# Altium schematic symbol library WE-KI.SchLib: 314 symbols (part 2 of 6)
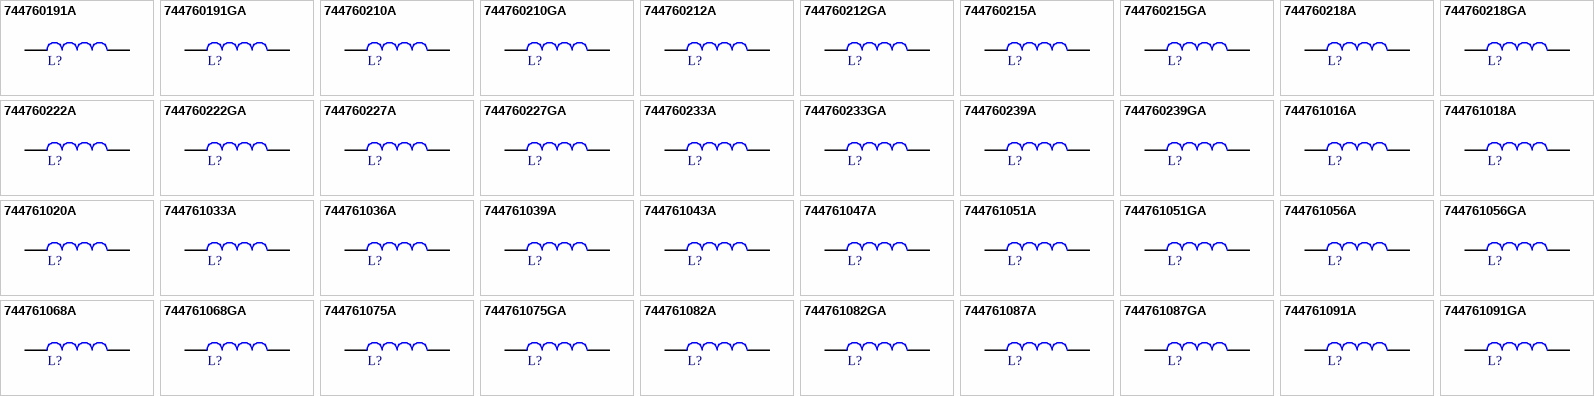
[diagram p8: symbols 744760191A to 744761091GA]

## 744760239A
designator L?, comment 390nH  (value not drawn)
WE-KI SMT Wire Wound Ceramic Inductor, size 0805, 390nH, 0.21A, 2.2Ω; Manufacturer Part Number: 744760239A; Manufacturer: Wurth Elektronik; Case/Size Code: 0805; Inductance Tolerance: +/-5%; Q Factor: 45; Self Resonant Frequency: 780MHz; Category: RF Inductors; Match Code: WE-KI; ComponentLink1Description: Website Link; ComponentLink1URL: https://www.we-online.com/redexpert/article/744760239A?ad; ComponentLink2Description: Datasheet Link; ComponentLink2URL: https://www.we-online.com/redexpert/spec/744760239A?ad; Mount: Surface Mount; Operating Temperature Max: 125°C; Operating Temperature Min: -40°C; Packaging: Tape and Reel; Length: 2mm; Width: 1.25mm; Height: 1.2mm; DC Resistance Max: 2.2Ω; Inductance: 390nH; Rated Current: 0.21A
footprint WE-KI_0805
simulation model 0805_744760239A_390n
pins: 1, 2

## 744760239GA
designator L?, comment 390nH  (value not drawn)
WE-KI SMT Wire Wound Ceramic Inductor, size 0805, 390nH, 0.21A, 2.2Ω; Manufacturer Part Number: 744760239GA; Manufacturer: Wurth Elektronik; Case/Size Code: 0805; Inductance Tolerance: +/-2%; Q Factor: 45; Self Resonant Frequency: 780MHz; Category: RF Inductors; Match Code: WE-KI; ComponentLink1Description: Website Link; ComponentLink1URL: https://www.we-online.com/redexpert/article/744760239GA?ad; ComponentLink2Description: Datasheet Link; ComponentLink2URL: https://www.we-online.com/redexpert/spec/744760239GA?ad; Mount: Surface Mount; Operating Temperature Max: 125°C; Operating Temperature Min: -40°C; Packaging: Tape and Reel; Length: 2mm; Width: 1.25mm; Height: 1.2mm; DC Resistance Max: 2.2Ω; Inductance: 390nH; Rated Current: 0.21A
footprint WE-KI_0805
simulation model 0805_744760239GA_390n
pins: 1, 2

## 744761016A
designator L?, comment 1.6nH  (value not drawn)
WE-KI SMT Wire Wound Ceramic Inductor, size 0603, 1.6nH, 0.7A, 0.03Ω; Manufacturer Part Number: 744761016A; Manufacturer: Wurth Elektronik; Case/Size Code: 0603; Inductance Tolerance: +/-0.2nH; Q Factor: 24; Self Resonant Frequency: 12500MHz; Category: RF Inductors; Match Code: WE-KI; ComponentLink1Description: Website Link; ComponentLink1URL: https://www.we-online.com/redexpert/article/744761016A?ad; ComponentLink2Description: Datasheet Link; ComponentLink2URL: https://www.we-online.com/redexpert/spec/744761016A?ad; Mount: Surface Mount; Operating Temperature Max: 125°C; Operating Temperature Min: -40°C; Packaging: Tape and Reel; Length: 1.6mm; Width: 1.05mm; Height: 1.05mm; DC Resistance Max: 0.03Ω; Inductance: 1.6nH; Rated Current: 0.7A
footprint WE-KI_0603
simulation model 0603_744761016A_1.6n
pins: 1, 2

## 744761018A
designator L?, comment 1.8nH  (value not drawn)
WE-KI SMT Wire Wound Ceramic Inductor, size 0603, 1.8nH, 0.7A, 0.05Ω; Manufacturer Part Number: 744761018A; Manufacturer: Wurth Elektronik; Case/Size Code: 0603; Inductance Tolerance: +/-0.2nH; Q Factor: 16; Self Resonant Frequency: 12500MHz; Category: RF Inductors; Match Code: WE-KI; ComponentLink1Description: Website Link; ComponentLink1URL: https://www.we-online.com/redexpert/article/744761018A?ad; ComponentLink2Description: Datasheet Link; ComponentLink2URL: https://www.we-online.com/redexpert/spec/744761018A?ad; Mount: Surface Mount; Operating Temperature Max: 125°C; Operating Temperature Min: -40°C; Packaging: Tape and Reel; Length: 1.6mm; Width: 1.05mm; Height: 1.05mm; DC Resistance Max: 0.05Ω; Inductance: 1.8nH; Rated Current: 0.7A
footprint WE-KI_0603
simulation model 0603_744761018A_1.8n
pins: 1, 2

## 744761020A
designator L?, comment 2nH  (value not drawn)
WE-KI SMT Wire Wound Ceramic Inductor, size 0603, 2nH, 0.7A, 0.08Ω; Manufacturer Part Number: 744761020A; Manufacturer: Wurth Elektronik; Case/Size Code: 0603; Inductance Tolerance: +/-0.2nH; Q Factor: 16; Self Resonant Frequency: 6900MHz; Category: RF Inductors; Match Code: WE-KI; ComponentLink1Description: Website Link; ComponentLink1URL: https://www.we-online.com/redexpert/article/744761020A?ad; ComponentLink2Description: Datasheet Link; ComponentLink2URL: https://www.we-online.com/redexpert/spec/744761020A?ad; Mount: Surface Mount; Operating Temperature Max: 125°C; Operating Temperature Min: -40°C; Packaging: Tape and Reel; Length: 1.6mm; Width: 1.05mm; Height: 1.05mm; DC Resistance Max: 0.08Ω; Inductance: 2nH; Rated Current: 0.7A
footprint WE-KI_0603
simulation model 0603_744761020A_2n
pins: 1, 2

## 744761033A
designator L?, comment 3.3nH  (value not drawn)
WE-KI SMT Wire Wound Ceramic Inductor, size 0603, 3.3nH, 0.7A, 0.06Ω; Manufacturer Part Number: 744761033A; Manufacturer: Wurth Elektronik; Case/Size Code: 0603; Inductance Tolerance: +/-0.2nH; Q Factor: 22; Self Resonant Frequency: 5800MHz; Category: RF Inductors; Match Code: WE-KI; ComponentLink1Description: Website Link; ComponentLink1URL: https://www.we-online.com/redexpert/article/744761033A?ad; ComponentLink2Description: Datasheet Link; ComponentLink2URL: https://www.we-online.com/redexpert/spec/744761033A?ad; Mount: Surface Mount; Operating Temperature Max: 125°C; Operating Temperature Min: -40°C; Packaging: Tape and Reel; Length: 1.6mm; Width: 1.05mm; Height: 1.05mm; DC Resistance Max: 0.06Ω; Inductance: 3.3nH; Rated Current: 0.7A
footprint WE-KI_0603
simulation model 0603_744761033A_3.3n
pins: 1, 2

## 744761036A
designator L?, comment 3.6nH  (value not drawn)
WE-KI SMT Wire Wound Ceramic Inductor, size 0603, 3.6nH, 0.7A, 0.06Ω; Manufacturer Part Number: 744761036A; Manufacturer: Wurth Elektronik; Case/Size Code: 0603; Inductance Tolerance: +/-0.2nH; Q Factor: 22; Self Resonant Frequency: 5900MHz; Category: RF Inductors; Match Code: WE-KI; ComponentLink1Description: Website Link; ComponentLink1URL: https://www.we-online.com/redexpert/article/744761036A?ad; ComponentLink2Description: Datasheet Link; ComponentLink2URL: https://www.we-online.com/redexpert/spec/744761036A?ad; Mount: Surface Mount; Operating Temperature Max: 125°C; Operating Temperature Min: -40°C; Packaging: Tape and Reel; Length: 1.6mm; Width: 1.05mm; Height: 1.05mm; DC Resistance Max: 0.06Ω; Inductance: 3.6nH; Rated Current: 0.7A
footprint WE-KI_0603
simulation model 0603_744761036A_3.6n
pins: 1, 2

## 744761039A
designator L?, comment 3.9nH  (value not drawn)
WE-KI SMT Wire Wound Ceramic Inductor, size 0603, 3.9nH, 0.7A, 0.08Ω; Manufacturer Part Number: 744761039A; Manufacturer: Wurth Elektronik; Case/Size Code: 0603; Inductance Tolerance: +/-0.2nH; Q Factor: 22; Self Resonant Frequency: 6000MHz; Category: RF Inductors; Match Code: WE-KI; ComponentLink1Description: Website Link; ComponentLink1URL: https://www.we-online.com/redexpert/article/744761039A?ad; ComponentLink2Description: Datasheet Link; ComponentLink2URL: https://www.we-online.com/redexpert/spec/744761039A?ad; Mount: Surface Mount; Operating Temperature Max: 125°C; Operating Temperature Min: -40°C; Packaging: Tape and Reel; Length: 1.6mm; Width: 1.05mm; Height: 1.05mm; DC Resistance Max: 0.08Ω; Inductance: 3.9nH; Rated Current: 0.7A
footprint WE-KI_0603
simulation model 0603_744761039A_3.9n
pins: 1, 2

## 744761043A
designator L?, comment 4.3nH  (value not drawn)
WE-KI SMT Wire Wound Ceramic Inductor, size 0603, 4.3nH, 0.7A, 0.08Ω; Manufacturer Part Number: 744761043A; Manufacturer: Wurth Elektronik; Case/Size Code: 0603; Inductance Tolerance: +/-0.2nH; Q Factor: 22; Self Resonant Frequency: 5900MHz; Category: RF Inductors; Match Code: WE-KI; ComponentLink1Description: Website Link; ComponentLink1URL: https://www.we-online.com/redexpert/article/744761043A?ad; ComponentLink2Description: Datasheet Link; ComponentLink2URL: https://www.we-online.com/redexpert/spec/744761043A?ad; Mount: Surface Mount; Operating Temperature Max: 125°C; Operating Temperature Min: -40°C; Packaging: Tape and Reel; Length: 1.6mm; Width: 1.05mm; Height: 1.05mm; DC Resistance Max: 0.08Ω; Inductance: 4.3nH; Rated Current: 0.7A
footprint WE-KI_0603
simulation model 0603_744761043A_4.3n
pins: 1, 2

## 744761047A
designator L?, comment 4.7nH  (value not drawn)
WE-KI SMT Wire Wound Ceramic Inductor, size 0603, 4.7nH, 0.7A, 0.13Ω; Manufacturer Part Number: 744761047A; Manufacturer: Wurth Elektronik; Case/Size Code: 0603; Inductance Tolerance: +/-0.2nH; Q Factor: 20; Self Resonant Frequency: 5800MHz; Category: RF Inductors; Match Code: WE-KI; ComponentLink1Description: Website Link; ComponentLink1URL: https://www.we-online.com/redexpert/article/744761047A?ad; ComponentLink2Description: Datasheet Link; ComponentLink2URL: https://www.we-online.com/redexpert/spec/744761047A?ad; Mount: Surface Mount; Operating Temperature Max: 125°C; Operating Temperature Min: -40°C; Packaging: Tape and Reel; Length: 1.6mm; Width: 1.05mm; Height: 1.05mm; DC Resistance Max: 0.13Ω; Inductance: 4.7nH; Rated Current: 0.7A
footprint WE-KI_0603
simulation model 0603_744761047A_4.7n
pins: 1, 2

## 744761051A
designator L?, comment 5.1nH  (value not drawn)
WE-KI SMT Wire Wound Ceramic Inductor, size 0603, 5.1nH, 0.7A, 0.14Ω; Manufacturer Part Number: 744761051A; Manufacturer: Wurth Elektronik; Case/Size Code: 0603; Inductance Tolerance: +/-5%; Q Factor: 20; Self Resonant Frequency: 5700MHz; Category: RF Inductors; Match Code: WE-KI; ComponentLink1Description: Website Link; ComponentLink1URL: https://www.we-online.com/redexpert/article/744761051A?ad; ComponentLink2Description: Datasheet Link; ComponentLink2URL: https://www.we-online.com/redexpert/spec/744761051A?ad; Mount: Surface Mount; Operating Temperature Max: 125°C; Operating Temperature Min: -40°C; Packaging: Tape and Reel; Length: 1.6mm; Width: 1.05mm; Height: 1.05mm; DC Resistance Max: 0.14Ω; Inductance: 5.1nH; Rated Current: 0.7A
footprint WE-KI_0603
simulation model 0603_744761051A_5.1n
pins: 1, 2

## 744761051GA
designator L?, comment 5.1nH  (value not drawn)
WE-KI SMT Wire Wound Ceramic Inductor, size 0603, 5.1nH, 0.7A, 0.14Ω; Manufacturer Part Number: 744761051GA; Manufacturer: Wurth Elektronik; Case/Size Code: 0603; Inductance Tolerance: +/-2%; Q Factor: 20; Self Resonant Frequency: 5700MHz; Category: RF Inductors; Match Code: WE-KI; ComponentLink1Description: Website Link; ComponentLink1URL: https://www.we-online.com/redexpert/article/744761051GA?ad; ComponentLink2Description: Datasheet Link; ComponentLink2URL: https://www.we-online.com/redexpert/spec/744761051GA?ad; Mount: Surface Mount; Operating Temperature Max: 125°C; Operating Temperature Min: -40°C; Packaging: Tape and Reel; Length: 1.6mm; Width: 1.05mm; Height: 1.05mm; DC Resistance Max: 0.14Ω; Inductance: 5.1nH; Rated Current: 0.7A
footprint WE-KI_0603
simulation model 0603_744761051GA_5.1n
pins: 1, 2

## 744761056A
designator L?, comment 5.6nH  (value not drawn)
WE-KI SMT Wire Wound Ceramic Inductor, size 0603, 5.6nH, 0.7A, 0.15Ω; Manufacturer Part Number: 744761056A; Manufacturer: Wurth Elektronik; Case/Size Code: 0603; Inductance Tolerance: +/-5%; Q Factor: 16; Self Resonant Frequency: 5500MHz; Category: RF Inductors; Match Code: WE-KI; ComponentLink1Description: Website Link; ComponentLink1URL: https://www.we-online.com/redexpert/article/744761056A?ad; ComponentLink2Description: Datasheet Link; ComponentLink2URL: https://www.we-online.com/redexpert/spec/744761056A?ad; Mount: Surface Mount; Operating Temperature Max: 125°C; Operating Temperature Min: -40°C; Packaging: Tape and Reel; Length: 1.6mm; Width: 1.05mm; Height: 1.05mm; DC Resistance Max: 0.15Ω; Inductance: 5.6nH; Rated Current: 0.7A
footprint WE-KI_0603
simulation model 0603_744761056A_5.6n
pins: 1, 2

## 744761056GA
designator L?, comment 5.6nH  (value not drawn)
WE-KI SMT Wire Wound Ceramic Inductor, size 0603, 5.6nH, 0.7A, 0.15Ω; Manufacturer Part Number: 744761056GA; Manufacturer: Wurth Elektronik; Case/Size Code: 0603; Inductance Tolerance: +/-2%; Q Factor: 16; Self Resonant Frequency: 5500MHz; Category: RF Inductors; Match Code: WE-KI; ComponentLink1Description: Website Link; ComponentLink1URL: https://www.we-online.com/redexpert/article/744761056GA?ad; ComponentLink2Description: Datasheet Link; ComponentLink2URL: https://www.we-online.com/redexpert/spec/744761056GA?ad; Mount: Surface Mount; Operating Temperature Max: 125°C; Operating Temperature Min: -40°C; Packaging: Tape and Reel; Length: 1.6mm; Width: 1.05mm; Height: 1.05mm; DC Resistance Max: 0.15Ω; Inductance: 5.6nH; Rated Current: 0.7A
footprint WE-KI_0603
simulation model 0603_744761056GA_5.6n
pins: 1, 2

## 744761068A
designator L?, comment 6.8nH  (value not drawn)
WE-KI SMT Wire Wound Ceramic Inductor, size 0603, 6.8nH, 0.7A, 0.11Ω; Manufacturer Part Number: 744761068A; Manufacturer: Wurth Elektronik; Case/Size Code: 0603; Inductance Tolerance: +/-5%; Q Factor: 30; Self Resonant Frequency: 5800MHz; Category: RF Inductors; Match Code: WE-KI; ComponentLink1Description: Website Link; ComponentLink1URL: https://www.we-online.com/redexpert/article/744761068A?ad; ComponentLink2Description: Datasheet Link; ComponentLink2URL: https://www.we-online.com/redexpert/spec/744761068A?ad; Mount: Surface Mount; Operating Temperature Max: 125°C; Operating Temperature Min: -40°C; Packaging: Tape and Reel; Length: 1.6mm; Width: 1.05mm; Height: 1.05mm; DC Resistance Max: 0.11Ω; Inductance: 6.8nH; Rated Current: 0.7A
footprint WE-KI_0603
simulation model 0603_744761068A_6.8n
pins: 1, 2

## 744761068GA
designator L?, comment 6.8nH  (value not drawn)
WE-KI SMT Wire Wound Ceramic Inductor, size 0603, 6.8nH, 0.7A, 0.11Ω; Manufacturer Part Number: 744761068GA; Manufacturer: Wurth Elektronik; Case/Size Code: 0603; Inductance Tolerance: +/-2%; Q Factor: 30; Self Resonant Frequency: 5800MHz; Category: RF Inductors; Match Code: WE-KI; ComponentLink1Description: Website Link; ComponentLink1URL: https://www.we-online.com/redexpert/article/744761068GA?ad; ComponentLink2Description: Datasheet Link; ComponentLink2URL: https://www.we-online.com/redexpert/spec/744761068GA?ad; Mount: Surface Mount; Operating Temperature Max: 125°C; Operating Temperature Min: -40°C; Packaging: Tape and Reel; Length: 1.6mm; Width: 1.05mm; Height: 1.05mm; DC Resistance Max: 0.11Ω; Inductance: 6.8nH; Rated Current: 0.7A
footprint WE-KI_0603
simulation model 0603_744761068GA_6.8n
pins: 1, 2

## 744761075A
designator L?, comment 7.5nH  (value not drawn)
WE-KI SMT Wire Wound Ceramic Inductor, size 0603, 7.5nH, 0.7A, 0.11Ω; Manufacturer Part Number: 744761075A; Manufacturer: Wurth Elektronik; Case/Size Code: 0603; Inductance Tolerance: +/-5%; Q Factor: 28; Self Resonant Frequency: 4800MHz; Category: RF Inductors; Match Code: WE-KI; ComponentLink1Description: Website Link; ComponentLink1URL: https://www.we-online.com/redexpert/article/744761075A?ad; ComponentLink2Description: Datasheet Link; ComponentLink2URL: https://www.we-online.com/redexpert/spec/744761075A?ad; Mount: Surface Mount; Operating Temperature Max: 125°C; Operating Temperature Min: -40°C; Packaging: Tape and Reel; Length: 1.6mm; Width: 1.05mm; Height: 1.05mm; DC Resistance Max: 0.11Ω; Inductance: 7.5nH; Rated Current: 0.7A
footprint WE-KI_0603
simulation model 0603_744761075A_7.5n
pins: 1, 2

## 744761075GA
designator L?, comment 7.5nH  (value not drawn)
WE-KI SMT Wire Wound Ceramic Inductor, size 0603, 7.5nH, 0.7A, 0.106Ω; Manufacturer Part Number: 744761075GA; Manufacturer: Wurth Elektronik; Case/Size Code: 0603; Inductance Tolerance: +/-2%; Q Factor: 28; Self Resonant Frequency: 4800MHz; Category: RF Inductors; Match Code: WE-KI; ComponentLink1Description: Website Link; ComponentLink1URL: https://www.we-online.com/redexpert/article/744761075GA?ad; ComponentLink2Description: Datasheet Link; ComponentLink2URL: https://www.we-online.com/redexpert/spec/744761075GA?ad; Mount: Surface Mount; Operating Temperature Max: 125°C; Operating Temperature Min: -40°C; Packaging: Tape and Reel; Length: 1.6mm; Width: 1.05mm; Height: 1.05mm; DC Resistance Max: 0.106Ω; Inductance: 7.5nH; Rated Current: 0.7A
footprint WE-KI_0603
simulation model 0603_744761075GA_7.5n
pins: 1, 2

## 744761082A
designator L?, comment 8.2nH  (value not drawn)
WE-KI SMT Wire Wound Ceramic Inductor, size 0603, 8.2nH, 0.7A, 0.1Ω; Manufacturer Part Number: 744761082A; Manufacturer: Wurth Elektronik; Case/Size Code: 0603; Inductance Tolerance: +/-5%; Q Factor: 30; Self Resonant Frequency: 4600MHz; Category: RF Inductors; Match Code: WE-KI; ComponentLink1Description: Website Link; ComponentLink1URL: https://www.we-online.com/redexpert/article/744761082A?ad; ComponentLink2Description: Datasheet Link; ComponentLink2URL: https://www.we-online.com/redexpert/spec/744761082A?ad; Mount: Surface Mount; Operating Temperature Max: 125°C; Operating Temperature Min: -40°C; Packaging: Tape and Reel; Length: 1.6mm; Width: 1.05mm; Height: 1.05mm; DC Resistance Max: 0.1Ω; Inductance: 8.2nH; Rated Current: 0.7A
footprint WE-KI_0603
simulation model 0603_744761082A_8.2n
pins: 1, 2

## 744761082GA
designator L?, comment 8.2nH  (value not drawn)
WE-KI SMT Wire Wound Ceramic Inductor, size 0603, 8.2nH, 0.7A, 0.1Ω; Manufacturer Part Number: 744761082GA; Manufacturer: Wurth Elektronik; Case/Size Code: 0603; Inductance Tolerance: +/-2%; Q Factor: 30; Self Resonant Frequency: 4600MHz; Category: RF Inductors; Match Code: WE-KI; ComponentLink1Description: Website Link; ComponentLink1URL: https://www.we-online.com/redexpert/article/744761082GA?ad; ComponentLink2Description: Datasheet Link; ComponentLink2URL: https://www.we-online.com/redexpert/spec/744761082GA?ad; Mount: Surface Mount; Operating Temperature Max: 125°C; Operating Temperature Min: -40°C; Packaging: Tape and Reel; Length: 1.6mm; Width: 1.05mm; Height: 1.05mm; DC Resistance Max: 0.1Ω; Inductance: 8.2nH; Rated Current: 0.7A
footprint WE-KI_0603
simulation model 0603_744761082GA_8.2n
pins: 1, 2

## 744761087A
designator L?, comment 8.7nH  (value not drawn)
WE-KI SMT Wire Wound Ceramic Inductor, size 0603, 8.7nH, 0.7A, 0.109Ω; Manufacturer Part Number: 744761087A; Manufacturer: Wurth Elektronik; Case/Size Code: 0603; Inductance Tolerance: +/-5%; Q Factor: 28; Self Resonant Frequency: 4600MHz; Category: RF Inductors; Match Code: WE-KI; ComponentLink1Description: Website Link; ComponentLink1URL: https://www.we-online.com/redexpert/article/744761087A?ad; ComponentLink2Description: Datasheet Link; ComponentLink2URL: https://www.we-online.com/redexpert/spec/744761087A?ad; Mount: Surface Mount; Operating Temperature Max: 125°C; Operating Temperature Min: -40°C; Packaging: Tape and Reel; Length: 1.6mm; Width: 1.05mm; Height: 1.05mm; DC Resistance Max: 0.109Ω; Inductance: 8.7nH; Rated Current: 0.7A
footprint WE-KI_0603
simulation model 0603_744761087A_8.7n
pins: 1, 2

## 744761087GA
designator L?, comment 8.7nH  (value not drawn)
WE-KI SMT Wire Wound Ceramic Inductor, size 0603, 8.7nH, 0.7A, 0.109Ω; Manufacturer Part Number: 744761087GA; Manufacturer: Wurth Elektronik; Case/Size Code: 0603; Inductance Tolerance: +/-2%; Q Factor: 28; Self Resonant Frequency: 4600MHz; Category: RF Inductors; Match Code: WE-KI; ComponentLink1Description: Website Link; ComponentLink1URL: https://www.we-online.com/redexpert/article/744761087GA?ad; ComponentLink2Description: Datasheet Link; ComponentLink2URL: https://www.we-online.com/redexpert/spec/744761087GA?ad; Mount: Surface Mount; Operating Temperature Max: 125°C; Operating Temperature Min: -40°C; Packaging: Tape and Reel; Length: 1.6mm; Width: 1.05mm; Height: 1.05mm; DC Resistance Max: 0.109Ω; Inductance: 8.7nH; Rated Current: 0.7A
footprint WE-KI_0603
simulation model 0603_744761087GA_8.7n
pins: 1, 2

## 744761091A
designator L?, comment 9.1nH  (value not drawn)
WE-KI SMT Wire Wound Ceramic Inductor, size 0603, 9.1nH, 0.7A, 0.135Ω; Manufacturer Part Number: 744761091A; Manufacturer: Wurth Elektronik; Case/Size Code: 0603; Inductance Tolerance: +/-5%; Q Factor: 28; Self Resonant Frequency: 4000MHz; Category: RF Inductors; Match Code: WE-KI; ComponentLink1Description: Website Link; ComponentLink1URL: https://www.we-online.com/redexpert/article/744761091A?ad; ComponentLink2Description: Datasheet Link; ComponentLink2URL: https://www.we-online.com/redexpert/spec/744761091A?ad; Mount: Surface Mount; Operating Temperature Max: 125°C; Operating Temperature Min: -40°C; Packaging: Tape and Reel; Length: 1.6mm; Width: 1.05mm; Height: 1.05mm; DC Resistance Max: 0.135Ω; Inductance: 9.1nH; Rated Current: 0.7A
footprint WE-KI_0603
simulation model 0603_744761091A_9.1n
pins: 1, 2

## 744761091GA
designator L?, comment 9.1nH  (value not drawn)
WE-KI SMT Wire Wound Ceramic Inductor, size 0603, 9.1nH, 0.7A, 0.135Ω; Manufacturer Part Number: 744761091GA; Manufacturer: Wurth Elektronik; Case/Size Code: 0603; Inductance Tolerance: +/-2%; Q Factor: 28; Self Resonant Frequency: 4000MHz; Category: RF Inductors; Match Code: WE-KI; ComponentLink1Description: Website Link; ComponentLink1URL: https://www.we-online.com/redexpert/article/744761091GA?ad; ComponentLink2Description: Datasheet Link; ComponentLink2URL: https://www.we-online.com/redexpert/spec/744761091GA?ad; Mount: Surface Mount; Operating Temperature Max: 125°C; Operating Temperature Min: -40°C; Packaging: Tape and Reel; Length: 1.6mm; Width: 1.05mm; Height: 1.05mm; DC Resistance Max: 0.135Ω; Inductance: 9.1nH; Rated Current: 0.7A
footprint WE-KI_0603
simulation model 0603_744761091GA_9.1n
pins: 1, 2

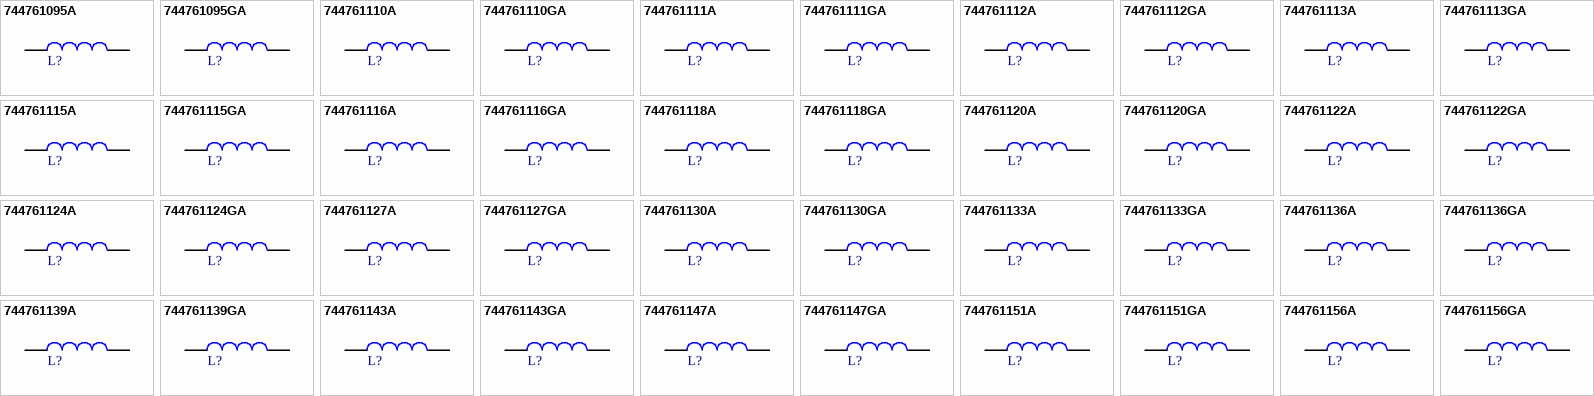
[diagram p2: symbols 744761095A to 744761156GA]

## 744761095A
designator L?, comment 9.5nH  (value not drawn)
WE-KI SMT Wire Wound Ceramic Inductor, size 0603, 9.5nH, 0.7A, 0.135Ω; Manufacturer Part Number: 744761095A; Manufacturer: Wurth Elektronik; Case/Size Code: 0603; Inductance Tolerance: +/-5%; Q Factor: 28; Self Resonant Frequency: 4500MHz; Category: RF Inductors; Match Code: WE-KI; ComponentLink1Description: Website Link; ComponentLink1URL: https://www.we-online.com/redexpert/article/744761095A?ad; ComponentLink2Description: Datasheet Link; ComponentLink2URL: https://www.we-online.com/redexpert/spec/744761095A?ad; Mount: Surface Mount; Operating Temperature Max: 125°C; Operating Temperature Min: -40°C; Packaging: Tape and Reel; Length: 1.6mm; Width: 1.05mm; Height: 1.05mm; DC Resistance Max: 0.135Ω; Inductance: 9.5nH; Rated Current: 0.7A
footprint WE-KI_0603
simulation model 0603_744761095A_9.5n
pins: 1, 2

## 744761095GA
designator L?, comment 9.5nH  (value not drawn)
WE-KI SMT Wire Wound Ceramic Inductor, size 0603, 9.5nH, 0.7A, 0.135Ω; Manufacturer Part Number: 744761095GA; Manufacturer: Wurth Elektronik; Case/Size Code: 0603; Inductance Tolerance: +/-2%; Q Factor: 28; Self Resonant Frequency: 4500MHz; Category: RF Inductors; Match Code: WE-KI; ComponentLink1Description: Website Link; ComponentLink1URL: https://www.we-online.com/redexpert/article/744761095GA?ad; ComponentLink2Description: Datasheet Link; ComponentLink2URL: https://www.we-online.com/redexpert/spec/744761095GA?ad; Mount: Surface Mount; Operating Temperature Max: 125°C; Operating Temperature Min: -40°C; Packaging: Tape and Reel; Length: 1.6mm; Width: 1.05mm; Height: 1.05mm; DC Resistance Max: 0.135Ω; Inductance: 9.5nH; Rated Current: 0.7A
footprint WE-KI_0603
simulation model 0603_744761095GA_9.5n
pins: 1, 2

## 744761110A
designator L?, comment 10nH  (value not drawn)
WE-KI SMT Wire Wound Ceramic Inductor, size 0603, 10nH, 0.7A, 0.13Ω; Manufacturer Part Number: 744761110A; Manufacturer: Wurth Elektronik; Case/Size Code: 0603; Inductance Tolerance: +/-5%; Q Factor: 30; Self Resonant Frequency: 4800MHz; Category: RF Inductors; Match Code: WE-KI; ComponentLink1Description: Website Link; ComponentLink1URL: https://www.we-online.com/redexpert/article/744761110A?ad; ComponentLink2Description: Datasheet Link; ComponentLink2URL: https://www.we-online.com/redexpert/spec/744761110A?ad; Mount: Surface Mount; Operating Temperature Max: 125°C; Operating Temperature Min: -40°C; Packaging: Tape and Reel; Length: 1.6mm; Width: 1.05mm; Height: 1.05mm; DC Resistance Max: 0.13Ω; Inductance: 10nH; Rated Current: 0.7A
footprint WE-KI_0603
simulation model 0603_744761110A_10n
pins: 1, 2

## 744761110GA
designator L?, comment 10nH  (value not drawn)
WE-KI SMT Wire Wound Ceramic Inductor, size 0603, 10nH, 0.7A, 0.13Ω; Manufacturer Part Number: 744761110GA; Manufacturer: Wurth Elektronik; Case/Size Code: 0603; Inductance Tolerance: +/-2%; Q Factor: 30; Self Resonant Frequency: 4800MHz; Category: RF Inductors; Match Code: WE-KI; ComponentLink1Description: Website Link; ComponentLink1URL: https://www.we-online.com/redexpert/article/744761110GA?ad; ComponentLink2Description: Datasheet Link; ComponentLink2URL: https://www.we-online.com/redexpert/spec/744761110GA?ad; Mount: Surface Mount; Operating Temperature Max: 125°C; Operating Temperature Min: -40°C; Packaging: Tape and Reel; Length: 1.6mm; Width: 1.05mm; Height: 1.05mm; DC Resistance Max: 0.13Ω; Inductance: 10nH; Rated Current: 0.7A
footprint WE-KI_0603
simulation model 0603_744761110GA_10n
pins: 1, 2

## 744761111A
designator L?, comment 11nH  (value not drawn)
WE-KI SMT Wire Wound Ceramic Inductor, size 0603, 11nH, 0.7A, 0.09Ω; Manufacturer Part Number: 744761111A; Manufacturer: Wurth Elektronik; Case/Size Code: 0603; Inductance Tolerance: +/-5%; Q Factor: 33; Self Resonant Frequency: 4000MHz; Category: RF Inductors; Match Code: WE-KI; ComponentLink1Description: Website Link; ComponentLink1URL: https://www.we-online.com/redexpert/article/744761111A?ad; ComponentLink2Description: Datasheet Link; ComponentLink2URL: https://www.we-online.com/redexpert/spec/744761111A?ad; Mount: Surface Mount; Operating Temperature Max: 125°C; Operating Temperature Min: -40°C; Packaging: Tape and Reel; Length: 1.6mm; Width: 1.05mm; Height: 1.05mm; DC Resistance Max: 0.09Ω; Inductance: 11nH; Rated Current: 0.7A
footprint WE-KI_0603
simulation model 0603_744761111A_11n
pins: 1, 2

## 744761111GA
designator L?, comment 11nH  (value not drawn)
WE-KI SMT Wire Wound Ceramic Inductor, size 0603, 11nH, 0.7A, 0.09Ω; Manufacturer Part Number: 744761111GA; Manufacturer: Wurth Elektronik; Case/Size Code: 0603; Inductance Tolerance: +/-2%; Q Factor: 33; Self Resonant Frequency: 4000MHz; Category: RF Inductors; Match Code: WE-KI; ComponentLink1Description: Website Link; ComponentLink1URL: https://www.we-online.com/redexpert/article/744761111GA?ad; ComponentLink2Description: Datasheet Link; ComponentLink2URL: https://www.we-online.com/redexpert/spec/744761111GA?ad; Mount: Surface Mount; Operating Temperature Max: 125°C; Operating Temperature Min: -40°C; Packaging: Tape and Reel; Length: 1.6mm; Width: 1.05mm; Height: 1.05mm; DC Resistance Max: 0.09Ω; Inductance: 11nH; Rated Current: 0.7A
footprint WE-KI_0603
simulation model 0603_744761111GA_11n
pins: 1, 2

## 744761112A
designator L?, comment 12nH  (value not drawn)
WE-KI SMT Wire Wound Ceramic Inductor, size 0603, 12nH, 0.7A, 0.13Ω; Manufacturer Part Number: 744761112A; Manufacturer: Wurth Elektronik; Case/Size Code: 0603; Inductance Tolerance: +/-5%; Q Factor: 35; Self Resonant Frequency: 4000MHz; Category: RF Inductors; Match Code: WE-KI; ComponentLink1Description: Website Link; ComponentLink1URL: https://www.we-online.com/redexpert/article/744761112A?ad; ComponentLink2Description: Datasheet Link; ComponentLink2URL: https://www.we-online.com/redexpert/spec/744761112A?ad; Mount: Surface Mount; Operating Temperature Max: 125°C; Operating Temperature Min: -40°C; Packaging: Tape and Reel; Length: 1.6mm; Width: 1.05mm; Height: 1.05mm; DC Resistance Max: 0.13Ω; Inductance: 12nH; Rated Current: 0.7A
footprint WE-KI_0603
simulation model 0603_744761112A_12n
pins: 1, 2

## 744761112GA
designator L?, comment 12nH  (value not drawn)
WE-KI SMT Wire Wound Ceramic Inductor, size 0603, 12nH, 0.7A, 0.13Ω; Manufacturer Part Number: 744761112GA; Manufacturer: Wurth Elektronik; Case/Size Code: 0603; Inductance Tolerance: +/-2%; Q Factor: 35; Self Resonant Frequency: 4000MHz; Category: RF Inductors; Match Code: WE-KI; ComponentLink1Description: Website Link; ComponentLink1URL: https://www.we-online.com/redexpert/article/744761112GA?ad; ComponentLink2Description: Datasheet Link; ComponentLink2URL: https://www.we-online.com/redexpert/spec/744761112GA?ad; Mount: Surface Mount; Operating Temperature Max: 125°C; Operating Temperature Min: -40°C; Packaging: Tape and Reel; Length: 1.6mm; Width: 1.05mm; Height: 1.05mm; DC Resistance Max: 0.13Ω; Inductance: 12nH; Rated Current: 0.7A
footprint WE-KI_0603
simulation model 0603_744761112GA_12n
pins: 1, 2

## 744761113A
designator L?, comment 13nH  (value not drawn)
WE-KI SMT Wire Wound Ceramic Inductor, size 0603, 13nH, 0.7A, 0.106Ω; Manufacturer Part Number: 744761113A; Manufacturer: Wurth Elektronik; Case/Size Code: 0603; Inductance Tolerance: +/-5%; Q Factor: 38; Self Resonant Frequency: 4000MHz; Category: RF Inductors; Match Code: WE-KI; ComponentLink1Description: Website Link; ComponentLink1URL: https://www.we-online.com/redexpert/article/744761113A?ad; ComponentLink2Description: Datasheet Link; ComponentLink2URL: https://www.we-online.com/redexpert/spec/744761113A?ad; Mount: Surface Mount; Operating Temperature Max: 125°C; Operating Temperature Min: -40°C; Packaging: Tape and Reel; Length: 1.6mm; Width: 1.05mm; Height: 1.05mm; DC Resistance Max: 0.106Ω; Inductance: 13nH; Rated Current: 0.7A
footprint WE-KI_0603
simulation model 0603_744761113A_13n
pins: 1, 2

## 744761113GA
designator L?, comment 13nH  (value not drawn)
WE-KI SMT Wire Wound Ceramic Inductor, size 0603, 13nH, 0.7A, 0.106Ω; Manufacturer Part Number: 744761113GA; Manufacturer: Wurth Elektronik; Case/Size Code: 0603; Inductance Tolerance: +/-2%; Q Factor: 38; Self Resonant Frequency: 4000MHz; Category: RF Inductors; Match Code: WE-KI; ComponentLink1Description: Website Link; ComponentLink1URL: https://www.we-online.com/redexpert/article/744761113GA?ad; ComponentLink2Description: Datasheet Link; ComponentLink2URL: https://www.we-online.com/redexpert/spec/744761113GA?ad; Mount: Surface Mount; Operating Temperature Max: 125°C; Operating Temperature Min: -40°C; Packaging: Tape and Reel; Length: 1.6mm; Width: 1.05mm; Height: 1.05mm; DC Resistance Max: 0.106Ω; Inductance: 13nH; Rated Current: 0.7A
footprint WE-KI_0603
simulation model 0603_744761113GA_13n
pins: 1, 2

## 744761115A
designator L?, comment 15nH  (value not drawn)
WE-KI SMT Wire Wound Ceramic Inductor, size 0603, 15nH, 0.7A, 0.17Ω; Manufacturer Part Number: 744761115A; Manufacturer: Wurth Elektronik; Case/Size Code: 0603; Inductance Tolerance: +/-5%; Q Factor: 35; Self Resonant Frequency: 4000MHz; Category: RF Inductors; Match Code: WE-KI; ComponentLink1Description: Website Link; ComponentLink1URL: https://www.we-online.com/redexpert/article/744761115A?ad; ComponentLink2Description: Datasheet Link; ComponentLink2URL: https://www.we-online.com/redexpert/spec/744761115A?ad; Mount: Surface Mount; Operating Temperature Max: 125°C; Operating Temperature Min: -40°C; Packaging: Tape and Reel; Length: 1.6mm; Width: 1.05mm; Height: 1.05mm; DC Resistance Max: 0.17Ω; Inductance: 15nH; Rated Current: 0.7A
footprint WE-KI_0603
simulation model 0603_744761115A_15n
pins: 1, 2

## 744761115GA
designator L?, comment 15nH  (value not drawn)
WE-KI SMT Wire Wound Ceramic Inductor, size 0603, 15nH, 0.7A, 0.17Ω; Manufacturer Part Number: 744761115GA; Manufacturer: Wurth Elektronik; Case/Size Code: 0603; Inductance Tolerance: +/-2%; Q Factor: 35; Self Resonant Frequency: 4000MHz; Category: RF Inductors; Match Code: WE-KI; ComponentLink1Description: Website Link; ComponentLink1URL: https://www.we-online.com/redexpert/article/744761115GA?ad; ComponentLink2Description: Datasheet Link; ComponentLink2URL: https://www.we-online.com/redexpert/spec/744761115GA?ad; Mount: Surface Mount; Operating Temperature Max: 125°C; Operating Temperature Min: -40°C; Packaging: Tape and Reel; Length: 1.6mm; Width: 1.05mm; Height: 1.05mm; DC Resistance Max: 0.17Ω; Inductance: 15nH; Rated Current: 0.7A
footprint WE-KI_0603
simulation model 0603_744761115GA_15n
pins: 1, 2

## 744761116A
designator L?, comment 16nH  (value not drawn)
WE-KI SMT Wire Wound Ceramic Inductor, size 0603, 16nH, 0.7A, 0.17Ω; Manufacturer Part Number: 744761116A; Manufacturer: Wurth Elektronik; Case/Size Code: 0603; Inductance Tolerance: +/-5%; Q Factor: 34; Self Resonant Frequency: 3300MHz; Category: RF Inductors; Match Code: WE-KI; ComponentLink1Description: Website Link; ComponentLink1URL: https://www.we-online.com/redexpert/article/744761116A?ad; ComponentLink2Description: Datasheet Link; ComponentLink2URL: https://www.we-online.com/redexpert/spec/744761116A?ad; Mount: Surface Mount; Operating Temperature Max: 125°C; Operating Temperature Min: -40°C; Packaging: Tape and Reel; Length: 1.6mm; Width: 1.05mm; Height: 1.05mm; DC Resistance Max: 0.17Ω; Inductance: 16nH; Rated Current: 0.7A
footprint WE-KI_0603
simulation model 0603_744761116A_16n
pins: 1, 2

## 744761116GA
designator L?, comment 16nH  (value not drawn)
WE-KI SMT Wire Wound Ceramic Inductor, size 0603, 16nH, 0.7A, 0.17Ω; Manufacturer Part Number: 744761116GA; Manufacturer: Wurth Elektronik; Case/Size Code: 0603; Inductance Tolerance: +/-2%; Q Factor: 34; Self Resonant Frequency: 3300MHz; Category: RF Inductors; Match Code: WE-KI; ComponentLink1Description: Website Link; ComponentLink1URL: https://www.we-online.com/redexpert/article/744761116GA?ad; ComponentLink2Description: Datasheet Link; ComponentLink2URL: https://www.we-online.com/redexpert/spec/744761116GA?ad; Mount: Surface Mount; Operating Temperature Max: 125°C; Operating Temperature Min: -40°C; Packaging: Tape and Reel; Length: 1.6mm; Width: 1.05mm; Height: 1.05mm; DC Resistance Max: 0.17Ω; Inductance: 16nH; Rated Current: 0.7A
footprint WE-KI_0603
simulation model 0603_744761116GA_16n
pins: 1, 2

## 744761118A
designator L?, comment 18nH  (value not drawn)
WE-KI SMT Wire Wound Ceramic Inductor, size 0603, 18nH, 0.7A, 0.17Ω; Manufacturer Part Number: 744761118A; Manufacturer: Wurth Elektronik; Case/Size Code: 0603; Inductance Tolerance: +/-5%; Q Factor: 38; Self Resonant Frequency: 3100MHz; Category: RF Inductors; Match Code: WE-KI; ComponentLink1Description: Website Link; ComponentLink1URL: https://www.we-online.com/redexpert/article/744761118A?ad; ComponentLink2Description: Datasheet Link; ComponentLink2URL: https://www.we-online.com/redexpert/spec/744761118A?ad; Mount: Surface Mount; Operating Temperature Max: 125°C; Operating Temperature Min: -40°C; Packaging: Tape and Reel; Length: 1.6mm; Width: 1.05mm; Height: 1.05mm; DC Resistance Max: 0.17Ω; Inductance: 18nH; Rated Current: 0.7A
footprint WE-KI_0603
simulation model 0603_744761118A_18n
pins: 1, 2

## 744761118GA
designator L?, comment 18nH  (value not drawn)
WE-KI SMT Wire Wound Ceramic Inductor, size 0603, 18nH, 0.7A, 0.17Ω; Manufacturer Part Number: 744761118GA; Manufacturer: Wurth Elektronik; Case/Size Code: 0603; Inductance Tolerance: +/-2%; Q Factor: 38; Self Resonant Frequency: 3100MHz; Category: RF Inductors; Match Code: WE-KI; ComponentLink1Description: Website Link; ComponentLink1URL: https://www.we-online.com/redexpert/article/744761118GA?ad; ComponentLink2Description: Datasheet Link; ComponentLink2URL: https://www.we-online.com/redexpert/spec/744761118GA?ad; Mount: Surface Mount; Operating Temperature Max: 125°C; Operating Temperature Min: -40°C; Packaging: Tape and Reel; Length: 1.6mm; Width: 1.05mm; Height: 1.05mm; DC Resistance Max: 0.17Ω; Inductance: 18nH; Rated Current: 0.7A
footprint WE-KI_0603
simulation model 0603_744761118GA_18n
pins: 1, 2

## 744761120A
designator L?, comment 20nH  (value not drawn)
WE-KI SMT Wire Wound Ceramic Inductor, size 0603, 20nH, 0.7A, 0.22Ω; Manufacturer Part Number: 744761120A; Manufacturer: Wurth Elektronik; Case/Size Code: 0603; Inductance Tolerance: +/-5%; Q Factor: 38; Self Resonant Frequency: 3000MHz; Category: RF Inductors; Match Code: WE-KI; ComponentLink1Description: Website Link; ComponentLink1URL: https://www.we-online.com/redexpert/article/744761120A?ad; ComponentLink2Description: Datasheet Link; ComponentLink2URL: https://www.we-online.com/redexpert/spec/744761120A?ad; Mount: Surface Mount; Operating Temperature Max: 125°C; Operating Temperature Min: -40°C; Packaging: Tape and Reel; Length: 1.6mm; Width: 1.05mm; Height: 1.05mm; DC Resistance Max: 0.22Ω; Inductance: 20nH; Rated Current: 0.7A
footprint WE-KI_0603
simulation model 0603_744761120A_20n
pins: 1, 2

## 744761120GA
designator L?, comment 20nH  (value not drawn)
WE-KI SMT Wire Wound Ceramic Inductor, size 0603, 20nH, 0.7A, 0.22Ω; Manufacturer Part Number: 744761120GA; Manufacturer: Wurth Elektronik; Case/Size Code: 0603; Inductance Tolerance: +/-2%; Q Factor: 38; Self Resonant Frequency: 3000MHz; Category: RF Inductors; Match Code: WE-KI; ComponentLink1Description: Website Link; ComponentLink1URL: https://www.we-online.com/redexpert/article/744761120GA?ad; ComponentLink2Description: Datasheet Link; ComponentLink2URL: https://www.we-online.com/redexpert/spec/744761120GA?ad; Mount: Surface Mount; Operating Temperature Max: 125°C; Operating Temperature Min: -40°C; Packaging: Tape and Reel; Length: 1.6mm; Width: 1.05mm; Height: 1.05mm; DC Resistance Max: 0.22Ω; Inductance: 20nH; Rated Current: 0.7A
footprint WE-KI_0603
simulation model 0603_744761120GA_20n
pins: 1, 2

## 744761122A
designator L?, comment 22nH  (value not drawn)
WE-KI SMT Wire Wound Ceramic Inductor, size 0603, 22nH, 0.7A, 0.22Ω; Manufacturer Part Number: 744761122A; Manufacturer: Wurth Elektronik; Case/Size Code: 0603; Inductance Tolerance: +/-5%; Q Factor: 38; Self Resonant Frequency: 3000MHz; Category: RF Inductors; Match Code: WE-KI; ComponentLink1Description: Website Link; ComponentLink1URL: https://www.we-online.com/redexpert/article/744761122A?ad; ComponentLink2Description: Datasheet Link; ComponentLink2URL: https://www.we-online.com/redexpert/spec/744761122A?ad; Mount: Surface Mount; Operating Temperature Max: 125°C; Operating Temperature Min: -40°C; Packaging: Tape and Reel; Length: 1.6mm; Width: 1.05mm; Height: 1.05mm; DC Resistance Max: 0.22Ω; Inductance: 22nH; Rated Current: 0.7A
footprint WE-KI_0603
simulation model 0603_744761122A_22n
pins: 1, 2

## 744761122GA
designator L?, comment 22nH  (value not drawn)
WE-KI SMT Wire Wound Ceramic Inductor, size 0603, 22nH, 0.7A, 0.22Ω; Manufacturer Part Number: 744761122GA; Manufacturer: Wurth Elektronik; Case/Size Code: 0603; Inductance Tolerance: +/-2%; Q Factor: 38; Self Resonant Frequency: 3000MHz; Category: RF Inductors; Match Code: WE-KI; ComponentLink1Description: Website Link; ComponentLink1URL: https://www.we-online.com/redexpert/article/744761122GA?ad; ComponentLink2Description: Datasheet Link; ComponentLink2URL: https://www.we-online.com/redexpert/spec/744761122GA?ad; Mount: Surface Mount; Operating Temperature Max: 125°C; Operating Temperature Min: -40°C; Packaging: Tape and Reel; Length: 1.6mm; Width: 1.05mm; Height: 1.05mm; DC Resistance Max: 0.22Ω; Inductance: 22nH; Rated Current: 0.7A
footprint WE-KI_0603
simulation model 0603_744761122GA_22n
pins: 1, 2

## 744761124A
designator L?, comment 24nH  (value not drawn)
WE-KI SMT Wire Wound Ceramic Inductor, size 0603, 24nH, 0.7A, 0.14Ω; Manufacturer Part Number: 744761124A; Manufacturer: Wurth Elektronik; Case/Size Code: 0603; Inductance Tolerance: +/-5%; Q Factor: 37; Self Resonant Frequency: 2650MHz; Category: RF Inductors; Match Code: WE-KI; ComponentLink1Description: Website Link; ComponentLink1URL: https://www.we-online.com/redexpert/article/744761124A?ad; ComponentLink2Description: Datasheet Link; ComponentLink2URL: https://www.we-online.com/redexpert/spec/744761124A?ad; Mount: Surface Mount; Operating Temperature Max: 125°C; Operating Temperature Min: -40°C; Packaging: Tape and Reel; Length: 1.6mm; Width: 1.05mm; Height: 1.05mm; DC Resistance Max: 0.14Ω; Inductance: 24nH; Rated Current: 0.7A
footprint WE-KI_0603
simulation model 0603_744761124A_24n
pins: 1, 2

## 744761124GA
designator L?, comment 24nH  (value not drawn)
WE-KI SMT Wire Wound Ceramic Inductor, size 0603, 24nH, 0.7A, 0.14Ω; Manufacturer Part Number: 744761124GA; Manufacturer: Wurth Elektronik; Case/Size Code: 0603; Inductance Tolerance: +/-2%; Q Factor: 37; Self Resonant Frequency: 2650MHz; Category: RF Inductors; Match Code: WE-KI; ComponentLink1Description: Website Link; ComponentLink1URL: https://www.we-online.com/redexpert/article/744761124GA?ad; ComponentLink2Description: Datasheet Link; ComponentLink2URL: https://www.we-online.com/redexpert/spec/744761124GA?ad; Mount: Surface Mount; Operating Temperature Max: 125°C; Operating Temperature Min: -40°C; Packaging: Tape and Reel; Length: 1.6mm; Width: 1.05mm; Height: 1.05mm; DC Resistance Max: 0.14Ω; Inductance: 24nH; Rated Current: 0.7A
footprint WE-KI_0603
simulation model 0603_744761124GA_24n
pins: 1, 2

## 744761127A
designator L?, comment 27nH  (value not drawn)
WE-KI SMT Wire Wound Ceramic Inductor, size 0603, 27nH, 0.6A, 0.22Ω; Manufacturer Part Number: 744761127A; Manufacturer: Wurth Elektronik; Case/Size Code: 0603; Inductance Tolerance: +/-5%; Q Factor: 40; Self Resonant Frequency: 2800MHz; Category: RF Inductors; Match Code: WE-KI; ComponentLink1Description: Website Link; ComponentLink1URL: https://www.we-online.com/redexpert/article/744761127A?ad; ComponentLink2Description: Datasheet Link; ComponentLink2URL: https://www.we-online.com/redexpert/spec/744761127A?ad; Mount: Surface Mount; Operating Temperature Max: 125°C; Operating Temperature Min: -40°C; Packaging: Tape and Reel; Length: 1.6mm; Width: 1.05mm; Height: 1.05mm; DC Resistance Max: 0.22Ω; Inductance: 27nH; Rated Current: 0.6A
footprint WE-KI_0603
simulation model 0603_744761127A_27n
pins: 1, 2

## 744761127GA
designator L?, comment 27nH  (value not drawn)
WE-KI SMT Wire Wound Ceramic Inductor, size 0603, 27nH, 0.6A, 0.22Ω; Manufacturer Part Number: 744761127GA; Manufacturer: Wurth Elektronik; Case/Size Code: 0603; Inductance Tolerance: +/-2%; Q Factor: 40; Self Resonant Frequency: 2800MHz; Category: RF Inductors; Match Code: WE-KI; ComponentLink1Description: Website Link; ComponentLink1URL: https://www.we-online.com/redexpert/article/744761127GA?ad; ComponentLink2Description: Datasheet Link; ComponentLink2URL: https://www.we-online.com/redexpert/spec/744761127GA?ad; Mount: Surface Mount; Operating Temperature Max: 125°C; Operating Temperature Min: -40°C; Packaging: Tape and Reel; Length: 1.6mm; Width: 1.05mm; Height: 1.05mm; DC Resistance Max: 0.22Ω; Inductance: 27nH; Rated Current: 0.6A
footprint WE-KI_0603
simulation model 0603_744761127GA_27n
pins: 1, 2

## 744761130A
designator L?, comment 30nH  (value not drawn)
WE-KI SMT Wire Wound Ceramic Inductor, size 0603, 30nH, 0.6A, 0.22Ω; Manufacturer Part Number: 744761130A; Manufacturer: Wurth Elektronik; Case/Size Code: 0603; Inductance Tolerance: +/-5%; Q Factor: 40; Self Resonant Frequency: 2500MHz; Category: RF Inductors; Match Code: WE-KI; ComponentLink1Description: Website Link; ComponentLink1URL: https://www.we-online.com/redexpert/article/744761130A?ad; ComponentLink2Description: Datasheet Link; ComponentLink2URL: https://www.we-online.com/redexpert/spec/744761130A?ad; Mount: Surface Mount; Operating Temperature Max: 125°C; Operating Temperature Min: -40°C; Packaging: Tape and Reel; Length: 1.6mm; Width: 1.05mm; Height: 1.05mm; DC Resistance Max: 0.22Ω; Inductance: 30nH; Rated Current: 0.6A
footprint WE-KI_0603
simulation model 0603_744761130A_30n
pins: 1, 2

## 744761130GA
designator L?, comment 30nH  (value not drawn)
WE-KI SMT Wire Wound Ceramic Inductor, size 0603, 30nH, 0.6A, 0.22Ω; Manufacturer Part Number: 744761130GA; Manufacturer: Wurth Elektronik; Case/Size Code: 0603; Inductance Tolerance: +/-2%; Q Factor: 40; Self Resonant Frequency: 2500MHz; Category: RF Inductors; Match Code: WE-KI; ComponentLink1Description: Website Link; ComponentLink1URL: https://www.we-online.com/redexpert/article/744761130GA?ad; ComponentLink2Description: Datasheet Link; ComponentLink2URL: https://www.we-online.com/redexpert/spec/744761130GA?ad; Mount: Surface Mount; Operating Temperature Max: 125°C; Operating Temperature Min: -40°C; Packaging: Tape and Reel; Length: 1.6mm; Width: 1.05mm; Height: 1.05mm; DC Resistance Max: 0.22Ω; Inductance: 30nH; Rated Current: 0.6A
footprint WE-KI_0603
simulation model 0603_744761130GA_30n
pins: 1, 2

## 744761133A
designator L?, comment 33nH  (value not drawn)
WE-KI SMT Wire Wound Ceramic Inductor, size 0603, 33nH, 0.6A, 0.22Ω; Manufacturer Part Number: 744761133A; Manufacturer: Wurth Elektronik; Case/Size Code: 0603; Inductance Tolerance: +/-5%; Q Factor: 43; Self Resonant Frequency: 2300MHz; Category: RF Inductors; Match Code: WE-KI; ComponentLink1Description: Website Link; ComponentLink1URL: https://www.we-online.com/redexpert/article/744761133A?ad; ComponentLink2Description: Datasheet Link; ComponentLink2URL: https://www.we-online.com/redexpert/spec/744761133A?ad; Mount: Surface Mount; Operating Temperature Max: 125°C; Operating Temperature Min: -40°C; Packaging: Tape and Reel; Length: 1.6mm; Width: 1.05mm; Height: 1.05mm; DC Resistance Max: 0.22Ω; Inductance: 33nH; Rated Current: 0.6A
footprint WE-KI_0603
simulation model 0603_744761133A_33n
pins: 1, 2

## 744761133GA
designator L?, comment 33nH  (value not drawn)
WE-KI SMT Wire Wound Ceramic Inductor, size 0603, 33nH, 0.6A, 0.22Ω; Manufacturer Part Number: 744761133GA; Manufacturer: Wurth Elektronik; Case/Size Code: 0603; Inductance Tolerance: +/-2%; Q Factor: 43; Self Resonant Frequency: 2300MHz; Category: RF Inductors; Match Code: WE-KI; ComponentLink1Description: Website Link; ComponentLink1URL: https://www.we-online.com/redexpert/article/744761133GA?ad; ComponentLink2Description: Datasheet Link; ComponentLink2URL: https://www.we-online.com/redexpert/spec/744761133GA?ad; Mount: Surface Mount; Operating Temperature Max: 125°C; Operating Temperature Min: -40°C; Packaging: Tape and Reel; Length: 1.6mm; Width: 1.05mm; Height: 1.05mm; DC Resistance Max: 0.22Ω; Inductance: 33nH; Rated Current: 0.6A
footprint WE-KI_0603
simulation model 0603_744761133GA_33n
pins: 1, 2

## 744761136A
designator L?, comment 36nH  (value not drawn)
WE-KI SMT Wire Wound Ceramic Inductor, size 0603, 36nH, 0.6A, 0.22Ω; Manufacturer Part Number: 744761136A; Manufacturer: Wurth Elektronik; Case/Size Code: 0603; Inductance Tolerance: +/-5%; Q Factor: 36; Self Resonant Frequency: 2300MHz; Category: RF Inductors; Match Code: WE-KI; ComponentLink1Description: Website Link; ComponentLink1URL: https://www.we-online.com/redexpert/article/744761136A?ad; ComponentLink2Description: Datasheet Link; ComponentLink2URL: https://www.we-online.com/redexpert/spec/744761136A?ad; Mount: Surface Mount; Operating Temperature Max: 125°C; Operating Temperature Min: -40°C; Packaging: Tape and Reel; Length: 1.6mm; Width: 1.05mm; Height: 1.05mm; DC Resistance Max: 0.22Ω; Inductance: 36nH; Rated Current: 0.6A
footprint WE-KI_0603
simulation model 0603_744761136A_36n
pins: 1, 2

## 744761136GA
designator L?, comment 36nH  (value not drawn)
WE-KI SMT Wire Wound Ceramic Inductor, size 0603, 36nH, 0.6A, 0.22Ω; Manufacturer Part Number: 744761136GA; Manufacturer: Wurth Elektronik; Case/Size Code: 0603; Inductance Tolerance: +/-2%; Q Factor: 36; Self Resonant Frequency: 2300MHz; Category: RF Inductors; Match Code: WE-KI; ComponentLink1Description: Website Link; ComponentLink1URL: https://www.we-online.com/redexpert/article/744761136GA?ad; ComponentLink2Description: Datasheet Link; ComponentLink2URL: https://www.we-online.com/redexpert/spec/744761136GA?ad; Mount: Surface Mount; Operating Temperature Max: 125°C; Operating Temperature Min: -40°C; Packaging: Tape and Reel; Length: 1.6mm; Width: 1.05mm; Height: 1.05mm; DC Resistance Max: 0.22Ω; Inductance: 36nH; Rated Current: 0.6A
footprint WE-KI_0603
simulation model 0603_744761136GA_36n
pins: 1, 2

## 744761139A
designator L?, comment 39nH  (value not drawn)
WE-KI SMT Wire Wound Ceramic Inductor, size 0603, 39nH, 0.6A, 0.25Ω; Manufacturer Part Number: 744761139A; Manufacturer: Wurth Elektronik; Case/Size Code: 0603; Inductance Tolerance: +/-5%; Q Factor: 43; Self Resonant Frequency: 2200MHz; Category: RF Inductors; Match Code: WE-KI; ComponentLink1Description: Website Link; ComponentLink1URL: https://www.we-online.com/redexpert/article/744761139A?ad; ComponentLink2Description: Datasheet Link; ComponentLink2URL: https://www.we-online.com/redexpert/spec/744761139A?ad; Mount: Surface Mount; Operating Temperature Max: 125°C; Operating Temperature Min: -40°C; Packaging: Tape and Reel; Length: 1.6mm; Width: 1.05mm; Height: 1.05mm; DC Resistance Max: 0.25Ω; Inductance: 39nH; Rated Current: 0.6A
footprint WE-KI_0603
simulation model 0603_744761139A_39n
pins: 1, 2

## 744761139GA
designator L?, comment 39nH  (value not drawn)
WE-KI SMT Wire Wound Ceramic Inductor, size 0603, 39nH, 0.6A, 0.25Ω; Manufacturer Part Number: 744761139GA; Manufacturer: Wurth Elektronik; Case/Size Code: 0603; Inductance Tolerance: +/-2%; Q Factor: 43; Self Resonant Frequency: 2200MHz; Category: RF Inductors; Match Code: WE-KI; ComponentLink1Description: Website Link; ComponentLink1URL: https://www.we-online.com/redexpert/article/744761139GA?ad; ComponentLink2Description: Datasheet Link; ComponentLink2URL: https://www.we-online.com/redexpert/spec/744761139GA?ad; Mount: Surface Mount; Operating Temperature Max: 125°C; Operating Temperature Min: -40°C; Packaging: Tape and Reel; Length: 1.6mm; Width: 1.05mm; Height: 1.05mm; DC Resistance Max: 0.25Ω; Inductance: 39nH; Rated Current: 0.6A
footprint WE-KI_0603
simulation model 0603_744761139GA_39n
pins: 1, 2